# Altium footprint library smd_osc.PcbLib: 12 footprints
Each footprint in its own frame and in the unit in brackets; x right, y up, seen from the top. Pads: shape width x height; smd on the part's side, far side on the other; paste and mask are expansions set on the pad; w line width, h text height; cw(c..) or ccw(c..) is an arc to the next point about the centre after c.
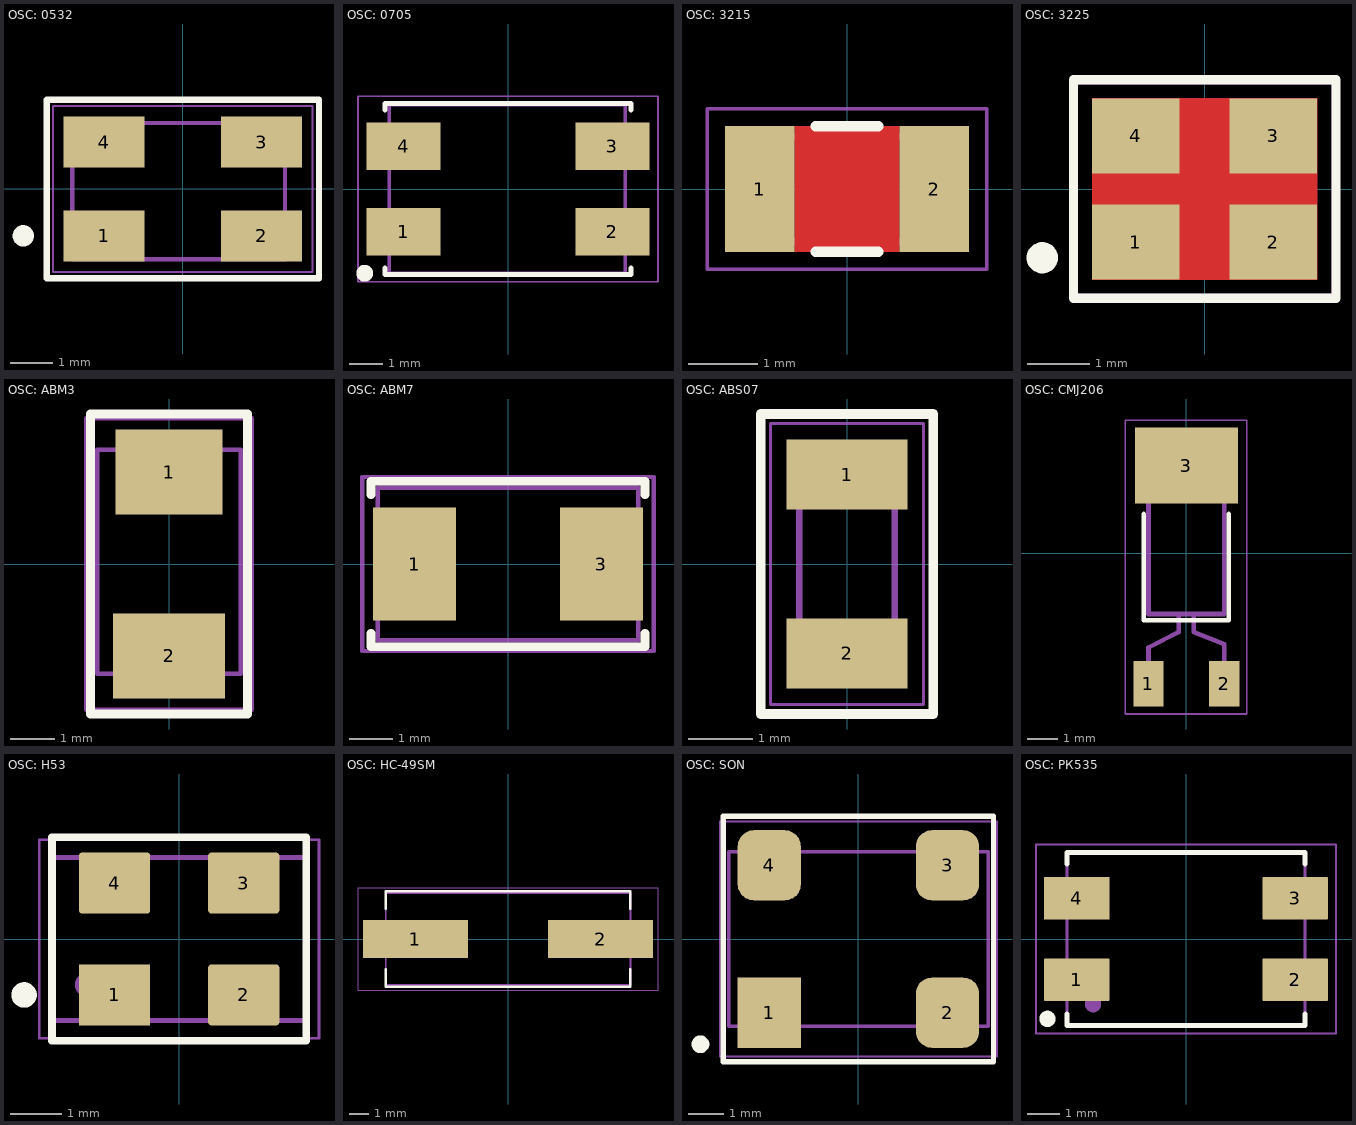
[diagram p0: the footprints below, top view; thin cyan lines are the x and y axes]

## OSC: 0532 [mm]
height 1
pads (4):
  rect 1.9x1.2 smd: 1(-1.85,-1.1) 2(1.85,-1.1) 3(1.85,1.1) 4(-1.85,1.1)
Top Overlay:
  circle w0.3: c-3.75,-1.1 r0.1
  lines w0.15: -3.2,-2.1 3.2,-2.1 3.2,2.1 -3.2,2.1 -3.2,-2.1
Top Assembly:
  circle w0.3: c-2,-1.1 r0.1
  lines w0.1: -2.6,-1.65 2.4,-1.65 2.4,1.55 -2.6,1.55 -2.6,-1.65
  text ".Designator" at -4.998,-0.333 h1
Top Courtyard (Mech15):
  lines w0.05: -3.05,-1.95 3.05,-1.95 3.05,1.95 -3.05,1.95 -3.05,-1.95

## OSC: 0705 [mm]
height 1.2
pads (4):
  rect 2.2x1.4 smd: 1(-3.1,-1.27) 2(3.1,-1.27) 3(3.1,1.27) 4(-3.1,1.27)
Top Overlay:
  circle w0.3: c-4.25,-2.5 r0.1
  lines w0.15: -3.65,-2.35 -3.65,-2.54 3.65,-2.54 3.65,-2.35 ; -3.65,2.35 -3.65,2.54 3.65,2.54 3.65,2.35
Top Assembly:
  circle w0.3: c-2.5,-1.6 r0.1
  lines w0.1: -3.526,-2.5 3.474,-2.5 3.474,2.5 -3.526,2.5 -3.526,-2.5
  text ".Designator" at -4.998,-0.333 h1
Top Courtyard (Mech15):
  lines w0.05: -4.45,-2.75 -4.45,2.75 4.45,2.75 4.45,-2.75 -4.45,-2.75
3D body "KX-13 QSMD7.0x5.0x1.3.step": height 1.3, standoff 0, extent -3.526,-2.5 3.474,2.5

## OSC: 3215 [mm]
height 0.75
pads (2):
  rect 1x1.8 smd: 1(-1.25,0) 2(1.25,0)
Top Layer:
  pour cut-out: -0.75,0.9 0.75,0.9 0.75,-0.9 -0.75,-0.9
Top Overlay:
  lines w0.15: -0.45,-0.9 0.45,-0.9 ; -0.45,0.9 0.45,0.9
Top Assembly:
  lines w0.1: -1.6,-0.75 1.6,-0.75 1.6,0.75 -1.6,0.75 -1.6,-0.75
  text ".Designator" at -4.998,-0.333 h1
Top Courtyard (Mech15):
  lines w0.05: -2,-1.15 2,-1.15 2,1.15 -2,1.15 -2,-1.15
3D body "SMD KSE-7L.STEP": height 0.75, standoff 0, extent -1.6,-0.75 1.6,0.75

## OSC: 3225 [mm]
height 0.8
pads (4):
  rect 1.4x1.2 smd: 1(-1.1,-0.85) 2(1.1,-0.85) 3(1.1,0.85) 4(-1.1,0.85)
Top Layer:
  pour cut-out: -1.8,1.45 1.8,1.45 1.8,-1.45 -1.8,-1.45
Top Overlay:
  circle w0.3: c-2.6,-1.1 r0.1
  lines w0.15: -2.1,-1.75 2.1,-1.75 2.1,1.75 -2.1,1.75 -2.1,-1.75
Top Assembly:
  circle w0.3: c-1,-0.75 r0.1
  lines w0.1: -1.6,-1.25 1.6,-1.25 1.6,1.25 -1.6,1.25 -1.6,-1.25
  text ".Designator" at -4.998,-0.333 h1
Top Courtyard (Mech15):
  lines w0.05: -2.05,-1.7 2.05,-1.7 2.05,1.7 -2.05,1.7 -2.05,-1.7
3D body "KX7 SMD Quartz Crystal Resonator 3.2x2.5mm с падами.STEP": height 0.6, standoff 0, extent -1.6,-1.25 1.6,1.25

## OSC: ABM3 [mm] "Quartz"
height 1.5
pads (2):
  rect 2.4x1.9 smd: 1(0,2.05)
  rect 2.5x1.9 smd: 2(0,-2.05)
Top Overlay:
  lines w0.2: -1.75,-3.35 -1.75,3.35 1.75,3.35 1.75,-3.2 1.75,-3.35 -1.75,-3.35
Top Assembly:
  lines w0.1: -1.6,-2.45 -1.6,2.55 1.6,2.55 1.6,-2.45 -1.6,-2.45
  text ".Designator" at -0.483,-4.998 h1
Top Courtyard (Mech15):
  lines w0.1: -1.85,-3.25 1.85,-3.25 1.85,3.25 -1.85,3.25 -1.85,-3.25
3D body "ABM3.STEP": height 1.3, standoff 0, extent -1.6,-2.5 1.6,2.5

## OSC: ABM7 [mm]
pads (2):
  rect 1.9x2.6 smd: 1(-2.15,0) 3(2.15,0)
Top Overlay:
  lines w0.2: -3.15,-1.6 -3.15,-1.9 3.15,-1.9 3.15,-1.6 ; -3.15,1.6 -3.15,1.9 3.15,1.9 3.15,1.6
Top Assembly:
  lines w0.1: -2.997,-1.752 2.997,-1.752 2.997,1.753 -2.997,1.753 -2.997,-1.752
  text ".Designator" at -4.998,-0.333 h1
Top Courtyard (Mech15):
  lines w0.1: -3.35,-2 3.35,-2 3.35,2 -3.35,2 -3.35,-2
3D body "ABM7.STEP": height 1.4, standoff 0, extent -2.997,-1.752 2.997,1.753

## OSC: ABS07 [mm] "Quartz"
height 0.9
pads (2):
  rect 1.9x1.1 smd: 1(0,1.4) 2(0,-1.4)
Top Overlay:
  lines w0.15: -1.35,-2.35 -1.35,2.35 1.35,2.35 1.35,-2.35 -1.35,-2.35
Top Assembly:
  lines w0.1: -0.75,-1.6 -0.75,1.6 0.75,1.6 0.75,-1.6 -0.75,-1.6
  text ".Designator" at -0.483,-4.998 h1
Top Courtyard (Mech15):
  lines w0.05: -1.2,-2.2 -1.2,2.2 1.2,2.2 1.2,-2.2 -1.2,-2.2
3D body "ABS07.STEP": height 0.89, standoff 0, extent -0.749,-1.6 0.749,1.6

## OSC: CMJ206 [mm]
pads (3):
  rect 1x1.5 smd: 1(-1.25,-4.3) 2(1.25,-4.3)
  rect 3.4x2.5 smd: 3(0,2.9)
Top Overlay:
  lines w0.15: -1.4,1.3 -1.4,-2.2 1.4,-2.2 1.4,1.3
Top Assembly:
  lines w0.15: -1.25,-4.3 -1.25,-3.1 -0.25,-2.6 -0.25,-2 ; 0.25,-2 0.25,-2.6 1.25,-3 1.25,-4.3 ; -1.25,-2 1.25,-2 1.25,4 -1.25,4 -1.25,-2
  text ".Designator" at -0.483,-4.998 h1
Top Courtyard (Mech15):
  lines w0.05: -2.025,-5.3 -2.025,4.4 2,4.4 2,-5.3 -2.025,-5.3

## OSC: H53 [mm]
height 1.2
pads (4):
  rect 1.4x1.2 smd: 1(-1.27,-1.1)
  rrect10% 1.4x1.2 smd: 2(1.27,-1.1) 3(1.27,1.1) 4(-1.27,1.1)
Top Overlay:
  circle w0.3: c-3.05,-1.1 r0.1
  lines w0.15: -2.5,-2 2.5,-2 2.5,2 -2.5,2 -2.5,-2
Top Assembly:
  circle w0.3: c-1.8,-0.9 r0.1
  lines w0.1: -2.5,-1.6 -2.5,1.6 2.5,1.6 2.5,-1.6 -2.5,-1.6
  text ".Designator" at -4.998,-0.333 h1
Top Courtyard (Mech15):
  lines w0.05: -2.75,-1.95 -2.75,1.95 2.75,1.95 2.75,-1.95 -2.75,-1.95

## OSC: HC-49SM [mm]
height 4.2
pads (2):
  rect 5.5x2 smd: 1(-4.85,0) 2(4.85,0)
Top Overlay:
  lines w0.15: -6.4,-1.6 -6.4,-2.5 6.4,-2.5 6.4,-1.6 ; -6.4,1.6 -6.4,2.5 6.4,2.5 6.4,1.6
Top Assembly:
  lines w0.1: -6.4,-2.415 -6.4,2.415 6.4,2.415 6.4,-2.415 -6.4,-2.415
  text ".Designator" at -4.998,-0.333 h1
Top Courtyard (Mech15):
  lines w0.05: -7.85,-2.675 7.85,-2.675 7.85,2.675 -7.85,2.675 -7.85,-2.675
3D body "User Library-Crystal HC49_US-SM.step": height 4.3, standoff 0, extent -6.4,-2.415 6.4,2.415

## OSC: SON [mm]
pads (4):
  rect 1.8x2 smd: 1(-2.54,-2.101)
  rrect50% 1.8x2 smd: 2(2.54,-2.101) 3(2.54,2.101) 4(-2.54,2.101)
Top Overlay:
  circle w0.3: c-4.5,-3 r0.1
  lines w0.15: -3.85,-3.5 -3.85,3.5 3.85,3.5 3.85,-3.5 -3.85,-3.5
Top Assembly:
  circle w0.3: c-2.9,-1.9 r0.1
  lines w0.1: -3.7,-2.489 3.7,-2.489 3.7,2.489 -3.7,2.489 -3.7,-2.489
  text ".Designator" at -4.998,-0.333 h1
Top Courtyard (Mech15):
  lines w0.05: -3.95,-3.35 -3.95,3.35 3.95,3.35 3.95,-3.35 -3.95,-3.35

## OSC: РК535 [mm] "Корпус для РК535, 4-Leads, Body 5.30x7.30x1.35mm"
height 1.35
pads (4):
  rrect5% 2x1.3 smd: 1(-3.35,-1.25) 2(3.35,-1.25) 3(3.35,1.25)
  rect 2x1.3 smd: 4(-3.35,1.25)
Top Overlay:
  circle w0.3: c-4.25,-2.45 r0.1
  lines w0.15: -3.65,-2.3 -3.65,-2.65 3.65,-2.65 3.65,-2.3 ; -3.65,2.3 -3.65,2.65 3.65,2.65 3.65,2.3
Top Assembly:
  circle w0.3: c-2.85,-2 r0.1
  lines w0.1: -3.65,-2.65 3.65,-2.65 3.65,2.65 -3.65,2.65 -3.65,-2.65
  text ".Designator" at -4.998,-0.333 h1
Top Courtyard (Mech15):
  lines w0.05: -4.6,-2.9 4.6,-2.9 4.6,2.9 -4.6,2.9 -4.6,-2.9